# Altium footprint library MPS_PKG_TSOT23-6.PcbLib: 1 footprints
Each footprint in its own frame and in the unit in brackets; x right, y up, seen from the top. Pads: shape width x height; smd on the part's side, far side on the other; paste and mask are expansions set on the pad; w line width, h text height; cw(c..) or ccw(c..) is an arc to the next point about the centre after c.
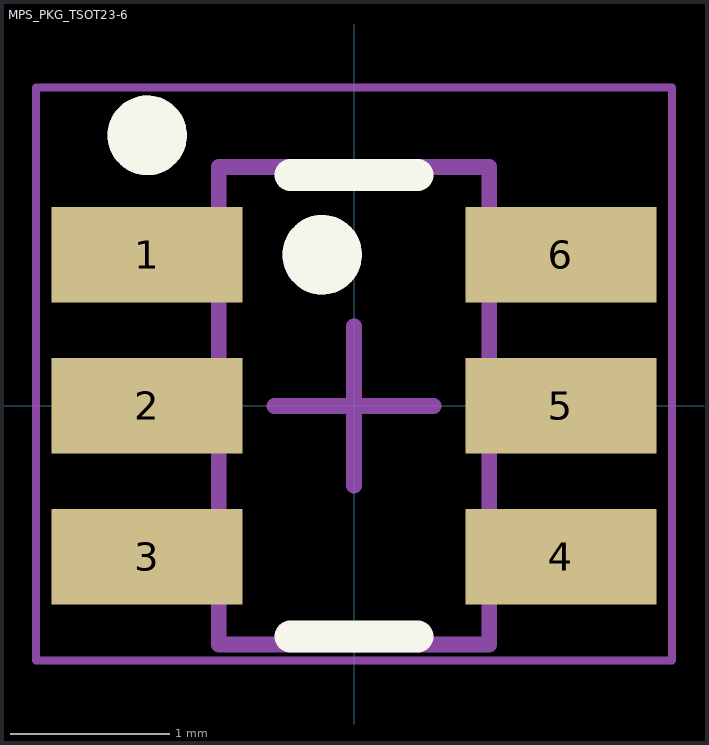
[diagram p0: the footprint, top view; thin cyan lines are the x and y axes]

## MPS_PKG_TSOT23-6 [mm]
height 1
pads (6):
  rect 1.2x0.6 smd mask+0.07: 1(-1.3,0.95) 2(-1.3,0) 3(-1.3,-0.95) 4(1.3,-0.95) 5(1.3,0) 6(1.3,0.95)
Top Overlay:
  circle w0.3: c-0.2,0.95 r0.1
  circle w0.3: c-1.3,1.7 r0.1
  lines w0.2: -0.4,-1.45 0.4,-1.45 ; -0.4,1.45 0.4,1.45
Mechanical 13:
  circle w0.3: c-0.2,0.95 r0.1
  circle w0.3: c-1.3,1.7 r0.1
  lines w0.1: -0.85,-1.5 -0.85,1.5 0.85,1.5 0.85,-1.5 -0.85,-1.5
Mechanical 15:
  lines w0.05: -2,-1.6 -2,2 2,2 2,-1.6 -2,-1.6
  lines w0.1: -0.5,0 0.5,0 ; 0,-0.5 0,0.5
3D body: height 1, standoff 0, extent -0.85,-1.5 0.85,1.5